# Altium footprint library Thermograph_PT100.PcbLib: 12 footprints
Each footprint in its own frame and in the unit in brackets; x right, y up, seen from the top. Pads: shape width x height; smd on the part's side, far side on the other; paste and mask are expansions set on the pad; w line width, h text height; cw(c..) or ccw(c..) is an arc to the next point about the centre after c.
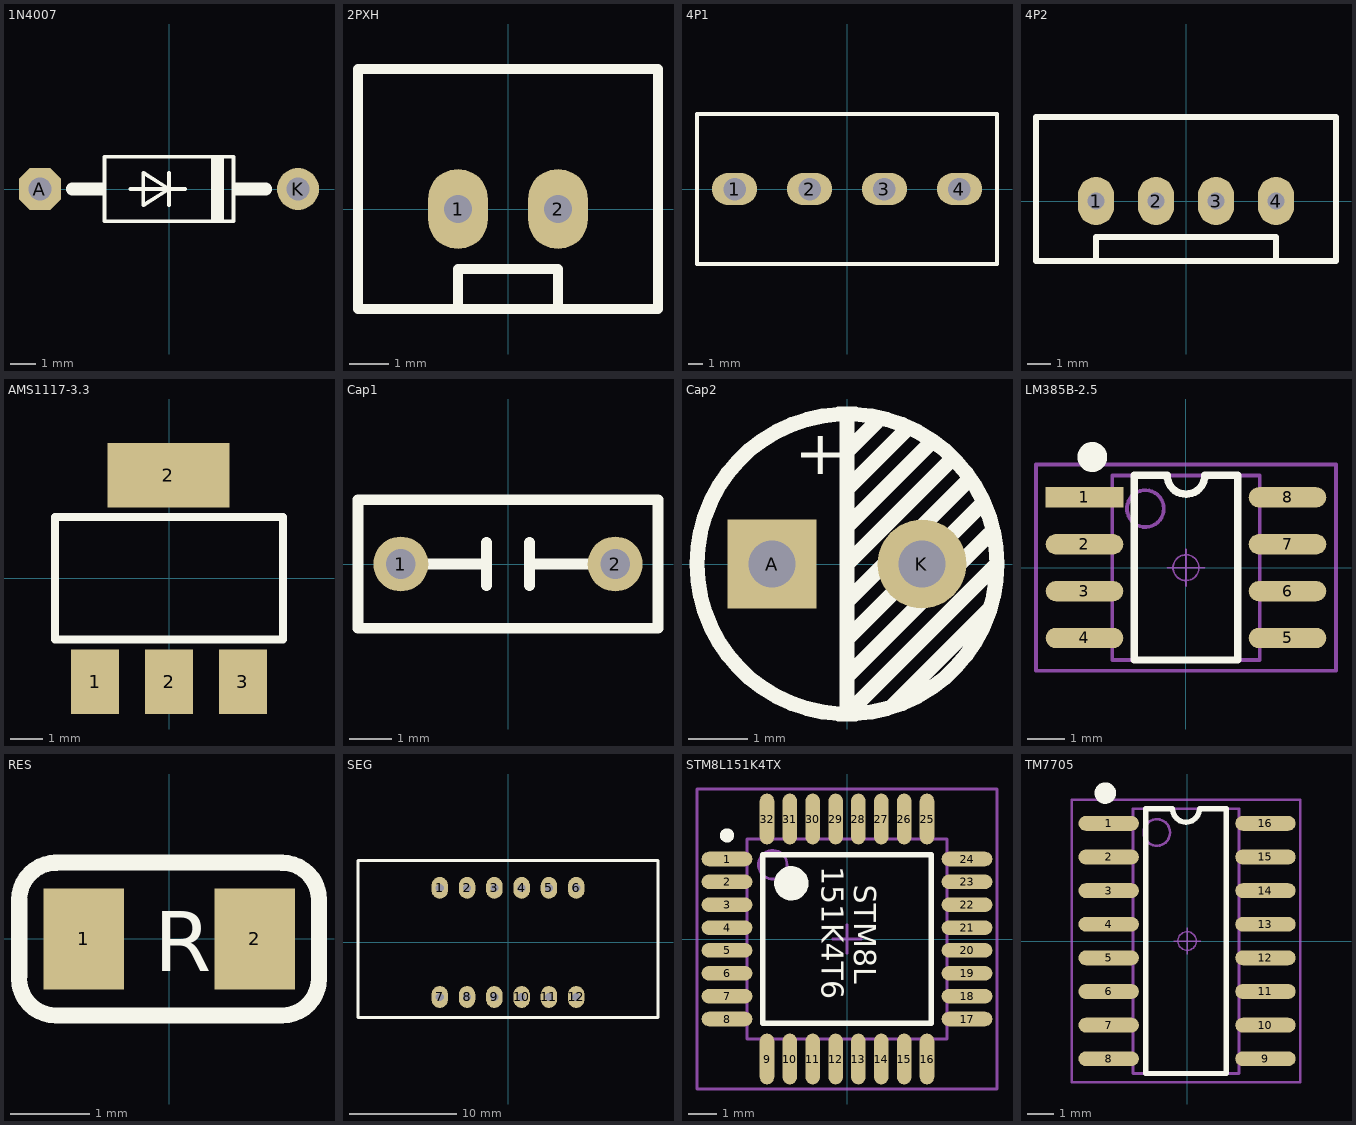
[diagram p0: the footprints below, top view; thin cyan lines are the x and y axes]

## 1N4007 [mil]
pads (2):
  oct 65x65 hole 35: A(-200,0)
  round 65 hole 35: K(200,0)
Top Overlay:
  rectangle: 100,-10 113,10
  region: -100,10 -113,10 -113,-10 -100,-10
  region: 85,50 65,50 65,-50 85,-50
  lines w6: -60,0 0,0 ; 0,-25 0,0 ; 0,25 0,0 ; 25,0 0,0 ; 0,0 -40,25 -40,-25 0,0 ; -100,-50 -100,50 100,50 100,-50 -100,-50
  lines w20: -150,0 -113,0 ; 113,0 150,0
3D body: height 100.5, standoff -100, extent -215,-50.5 215,50.5

## 2PXH [mil]
pads (2):
  oval 60x80 hole 27.56: 1(-50,0) 2(50,0)
Top Overlay:
  lines w10: -50,-100 -50,-60 50,-60 50,-80 50,-100 ; -150,-100 -150,20 -150,140 150,140 150,-100 -150,-100

## 4P1 [mil]
pads (4):
  oval 120x85 hole 60: 1(-300,0) 2(-100,0) 3(100,0) 4(300,0)
Top Overlay:
  lines w10: -400,-200 -400,200 0,200 400,200 400,-200 -400,-200

## 4P2 [mil]
pads (4):
  oval 60x80 hole 27.56: 1(-150,0) 2(-50,0) 3(50,0) 4(150,0)
Top Overlay:
  lines w10: -150,-100 -150,-60 150,-60 150,-100 ; -250,-100 230,-100 250,-100 250,140 -250,140 -250,20 -250,-100

## AMS1117-3.3 [mil]
pads (4):
  rect 59x79 smd: 1(-90.55,-126.77) 2(0,-126.77) 3(90.55,-126.77)
  rect 150x79 smd: 2(-0.67,126.77)
Top Overlay:
  lines w10: -140,-74.77 -140,75.23 140,75.23 140,-74.77 -140,-74.77

## Cap1 [mm] "独石电容"
pads (2):
  round 1.3 hole 0.7: 1(-2.54,0) 2(2.54,0)
Top Overlay:
  lines w0.254: -2.54,0 -0.508,0 ; -0.508,-0.508 -0.508,0.508 ; 0.508,-0.508 0.508,0.508 ; 0.508,0 2.54,0 ; -3.556,-1.524 3.556,-1.524 3.556,1.524 -3.556,1.524 -3.556,-1.524

## Cap2 [mm] "电解电容(2.54mm)"
pads (2):
  rect 1.5x1.5 hole 0.8: A(-1.27,0)
  round 1.5 hole 0.8: K(1.27,0)
Top Overlay:
  circle w0.254: c0,0 r2.54
  lines w0.254: 0,-1.905 2.413,0.508 ; 0,-1.27 2.286,1.016 ; 0,-0.635 2.032,1.397 ; 0,0 1.778,1.778 ; 0,0.635 1.397,2.032 ; 0,1.27 1.016,2.286 ; 0,1.905 0.508,2.413 ; 0,2.54 0,-2.54 2.54,0 ; 0.762,-2.413 2.413,-0.762
  text "+" at -0.889,1.524 h0.76

## LM385B-2.5 [mm] "SOP8(1.27mm)"
pads (8):
  rect 2.1x0.55 smd: 1(-2.75,1.905)
  oval 2.1x0.55 smd: 2(-2.75,0.635) 3(-2.75,-0.635) 4(-2.75,-1.905) 5(2.75,-1.905) 6(2.75,-0.635) 7(2.75,0.635) 8(2.75,1.905)
Top Overlay:
  circle w0.5: c-2.54,3 r0.155
  lines w0.2: -1.397,2.5 -1.397,-2.5 1.397,-2.5 1.397,2.5
  lines w0.203: -1.397,2.5 -0.508,2.5 ccw(c0,2.5) 0,1.992 ccw(c0,2.5) 0.508,2.5 1.397,2.5
Mechanical 13:
  circle w0.1: c-1.1,1.6 r0.5
  lines w0.1: -2,-2.5 -2,2.5 2,2.5 2,-2.5 -2,-2.5
Mechanical 15:
  circle w0.05: c0,0 r0.35
  lines w0.05: -0.5,0 0.5,0 ; 0,-0.5 0,0.5
  lines w0.1: -4.064,-2.794 -4.064,2.794 4.064,2.794 4.064,-2.794 -4.064,-2.794
3D body: height 1.9, standoff 0, extent -3.003,-2.5 3.003,2.5

## RES [mil]
pads (2):
  rect 40x50 smd: 1(-42.5,0) 2(42.5,0)
Top Overlay:
  lines w8: -74.61,-19.59 ccw(c-56.2,-19.59) -56.2,-38 ; -74.5,-18.5 -74.5,18.5 ; -74.5,19.5 cw(c-56.09,19.5) -56.09,37.91 ; -56.62,38 55.59,38 ; -55.2,-38 55.61,-38 ; 56.09,-38 ccw(c56.09,-19.59) 74.5,-19.59 ; 56.09,37.91 cw(c56.09,19.5) 74.5,19.5 ; 74.5,-18.59 74.5,18.5
  text "R" at -7.5,-16 h30
3D body: height 30.39, standoff -0.39, extent -39.24,-24.61 39.5,24.61

## SEG [mil]
height 275.59
pads (12):
  oval 60x80 hole 30 square: 1(-250,200) 2(-150,200) 4(50,200) 5(150,200)
  oval 60x80 hole 30: 3(-50,200) 6(250,200) 7(-250,-200) 8(-150,-200) 9(-50,-200) 10(50,-200) 11(150,-200) 12(250,-200)
Top Overlay:
  lines w10: -550,-275 550,-275 550,300 250,300 -250,300 -550,300 -550,-275

## STM8L151K4TX [mil]
pads (32):
  oval 70x20 smd: 1(-165.35,110.24) 2(-165.35,78.74) 3(-165.35,47.24) 4(-165.35,15.75) 5(-165.35,-15.75) 6(-165.35,-47.24) 7(-165.35,-78.74) 8(-165.35,-110.24) 17(165.35,-110.24) 18(165.35,-78.74) 19(165.35,-47.24) 20(165.35,-15.75) 21(165.35,15.75) 22(165.35,47.24) 23(165.35,78.74) 24(165.35,110.24)
  oval 20x70 smd: 9(-110.24,-165.35) 10(-78.74,-165.35) 11(-47.24,-165.35) 12(-15.75,-165.35) 13(15.75,-165.35) 14(47.24,-165.35) 15(78.74,-165.35) 16(110.24,-165.35) 25(110.24,165.35) 26(78.74,165.35) 27(47.24,165.35) 28(15.75,165.35) 29(-15.75,165.35) 30(-47.24,165.35) 31(-78.74,165.35) 32(-110.24,165.35)
Top Overlay:
  circle w9.84: c-165.35,142.72 r4.92
  circle w23.62: c-76.77,76.77 r11.81
  lines w7.87: -116.14,-116.14 -116.14,116.14 116.14,116.14 116.14,-116.14 -116.14,-116.14
  text "STM8L" at 10,75 h30
  text "151K4T6" at -35,100 h30
Mechanical 13:
  circle w3.94: c-102.36,102.36 r19.68
  lines w3.94: -137.8,-137.8 -137.8,137.8 137.8,137.8 137.8,-137.8 -137.8,-137.8
Mechanical 15:
  lines w3.94: -19.68,0 19.69,0 ; 0,-19.68 0,19.69 ; -206.69,-206.69 -206.69,206.69 206.69,206.69 206.69,-206.69 -206.69,-206.69
3D body: height 62.99, standoff 0, extent -137.8,-137.8 137.8,137.8

## TM7705 [mil] "SOP16(1.27)"
height 78.74
pads (16):
  oval 90x22 smd: 1(-116.59,175) 2(-116.59,125) 3(-116.59,75) 4(-116.59,25) 5(-116.59,-25) 6(-116.59,-75) 7(-116.59,-125) 8(-116.59,-175) 9(116.59,-175) 10(116.59,-125) 11(116.59,-75) 12(116.59,-25) 13(116.59,25) 14(116.59,75) 15(116.59,125) 16(116.59,175)
Top Overlay:
  circle w19.68: c-121.59,220 r6.08
  lines w7.87: -61.59,196.85 -61.59,-196.85 58.41,-196.85 58.41,196.85
  lines w8: -61.59,196.85 -21.59,196.85 ccw(c-1.59,196.85) -1.59,176.85 ccw(c-1.59,196.85) 18.41,196.85 58.41,196.85
Mechanical 13:
  circle w3.94: c-44.9,161.42 r19.68
  lines w3.94: -80.33,-196.85 77.15,-196.85 77.15,196.85 -80.33,196.85 -80.33,-196.85
Mechanical 15:
  circle w1.97: c0,0 r13.78
  lines w2: -20,0 20,0 ; 0,-20 0,20
  lines w3.94: -171.59,-210 168.41,-210 168.41,210 -171.59,210 -171.59,-210
3D body: height 74.8, standoff 0, extent -119.84,-196.85 116.65,196.85